# EAGLE library part 690368190672 (library Eagle_BOARD-TO-BOARD_CONNECTORS (rev18b))
WR-MM Female Angled Connector with Latch and with Polarization, 6 Pins=>Code : Con_BTB_MM_Female_THT_Ang_690368190672 <http://katalog.we-online.de/media/thumbs2/eican/thb_Con_BTB_MM_Female_THT_Ang_69036819xx72_pf2.jpg> Details see: http://katalog.we-online.de/en/em/6903_6819_xx_72 Created 2014-06-04, Karrer Zheng 2014 (C) Würth Elektronik
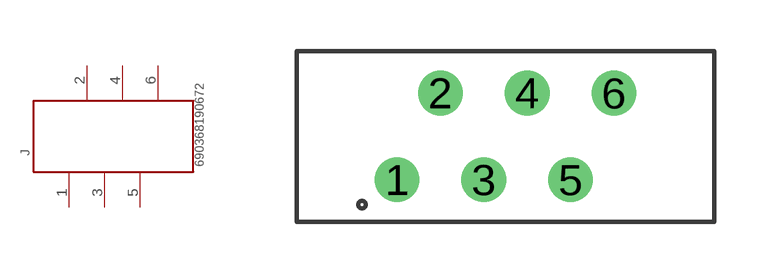
[diagram p393: symbol with the pads of 690368190672; footprint 690368190672]

Designator prefix J

## 690368190672  [690368190672]
1  1  pas
2  2  pas
3  3  pas
4  4  pas
5  5  pas
6  6  pas

## Footprint 690368190672 (pad centres in mm)
WR-MM Female Angled Connector with Latch and with Polarization, 6 Pins
drill 0.8: 1 -3.175,-1.27; 2 -1.905,1.27; 3 -0.635,-1.27; 4 0.635,1.27; 5 1.905,-1.27; 6 3.175,1.27